# EAGLE library part MCP9808 (library MetroMINI)
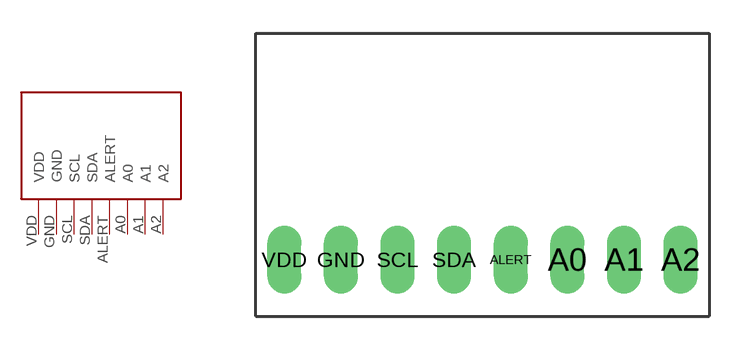
[diagram p2: symbol with the pads of MCP9808; footprint MCP9808]

Designator prefix -

## MCP9808  [MCP9808]
A0  A0
A1  A1
A2  A2
ALERT  ALERT
GND  GND
SCL  SCL
SDA  SDA
VDD  VDD

## Footprint MCP9808 (pad centres in mm)
drill 1.016 long: A0 2.54,0; A1 5.08,0; A2 7.62,0; ALERT 0,0; GND -7.62,0; SCL -5.08,0; SDA -2.54,0; VDD -10.16,0